# EAGLE library part RS6-DC/DC (library MusicThingModular)
5v -> +/-12v DC DC Converter
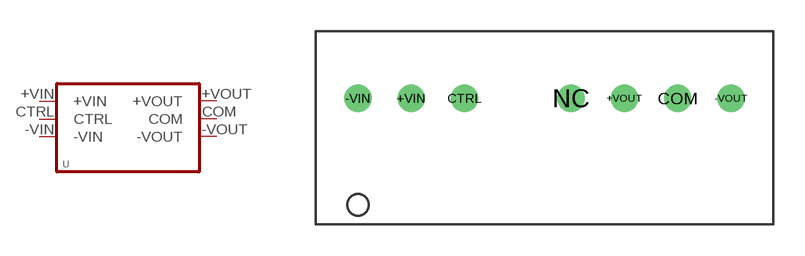
[diagram p14: symbol with the pads of RS6_DC-DC; footprint RS6_DC-DC]

Designator prefix -

## RS6-DC/DC  [RS6_DC-DC]
+VIN  +VIN  pas
+VOUT  +VOUT  pas
-VIN  -VIN  pas
-VOUT  -VOUT  pas
COM  COM  pas
CTRL  CTRL  pas

## Footprint RS6_DC-DC (pad centres in mm)
drill 0.8: +VIN -5.08,0; +VOUT 5.08,0; -VIN -7.62,0; -VOUT 10.16,0; COM 7.62,0; CTRL -2.54,0; NC 2.54,0